# EAGLE library part SEVEN-SEGMENT (library deiring-components)
Seven Segment Display Cathode
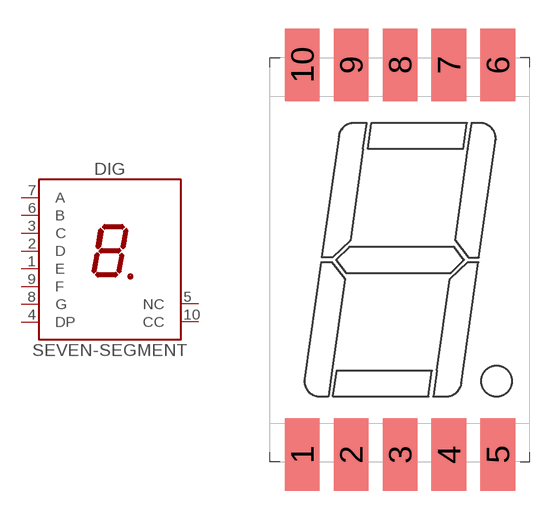
[diagram p21: symbol with the pads of SEG-07-14; footprint SEG-07-14]

Designator prefix DIG

## SEVEN-SEGMENT-WHITE-14.22 (LCSC: C295565; MF: OASIS; MPN: TOS-F5167AA-B; VALUE: white)  [SEG-07-14]
1  E
2  D
3  C
4  DP
5  NC  nc
6  B
7  A
8  G
9  F
10  CC  pas

## Footprint SEG-07-14 (pad centres in mm)
smd 1.8 x 3.75: 1 -5.08,-10.125; 2 -2.54,-10.125; 3 0,-10.125; 4 2.54,-10.125; 5 5.08,-10.125; 6 5.08,10.125; 7 2.54,10.125; 8 0,10.125; 9 -2.54,10.125; 10 -5.08,10.125